# Altium footprint library PFC-120W-Pcb-Lib.PcbLib: 24 footprints (part 1 of 2)
Each footprint in its own frame and in the unit in brackets; x right, y up, seen from the top. Pads: shape width x height; smd on the part's side, far side on the other; paste and mask are expansions set on the pad; w line width, h text height; cw(c..) or ccw(c..) is an arc to the next point about the centre after c.
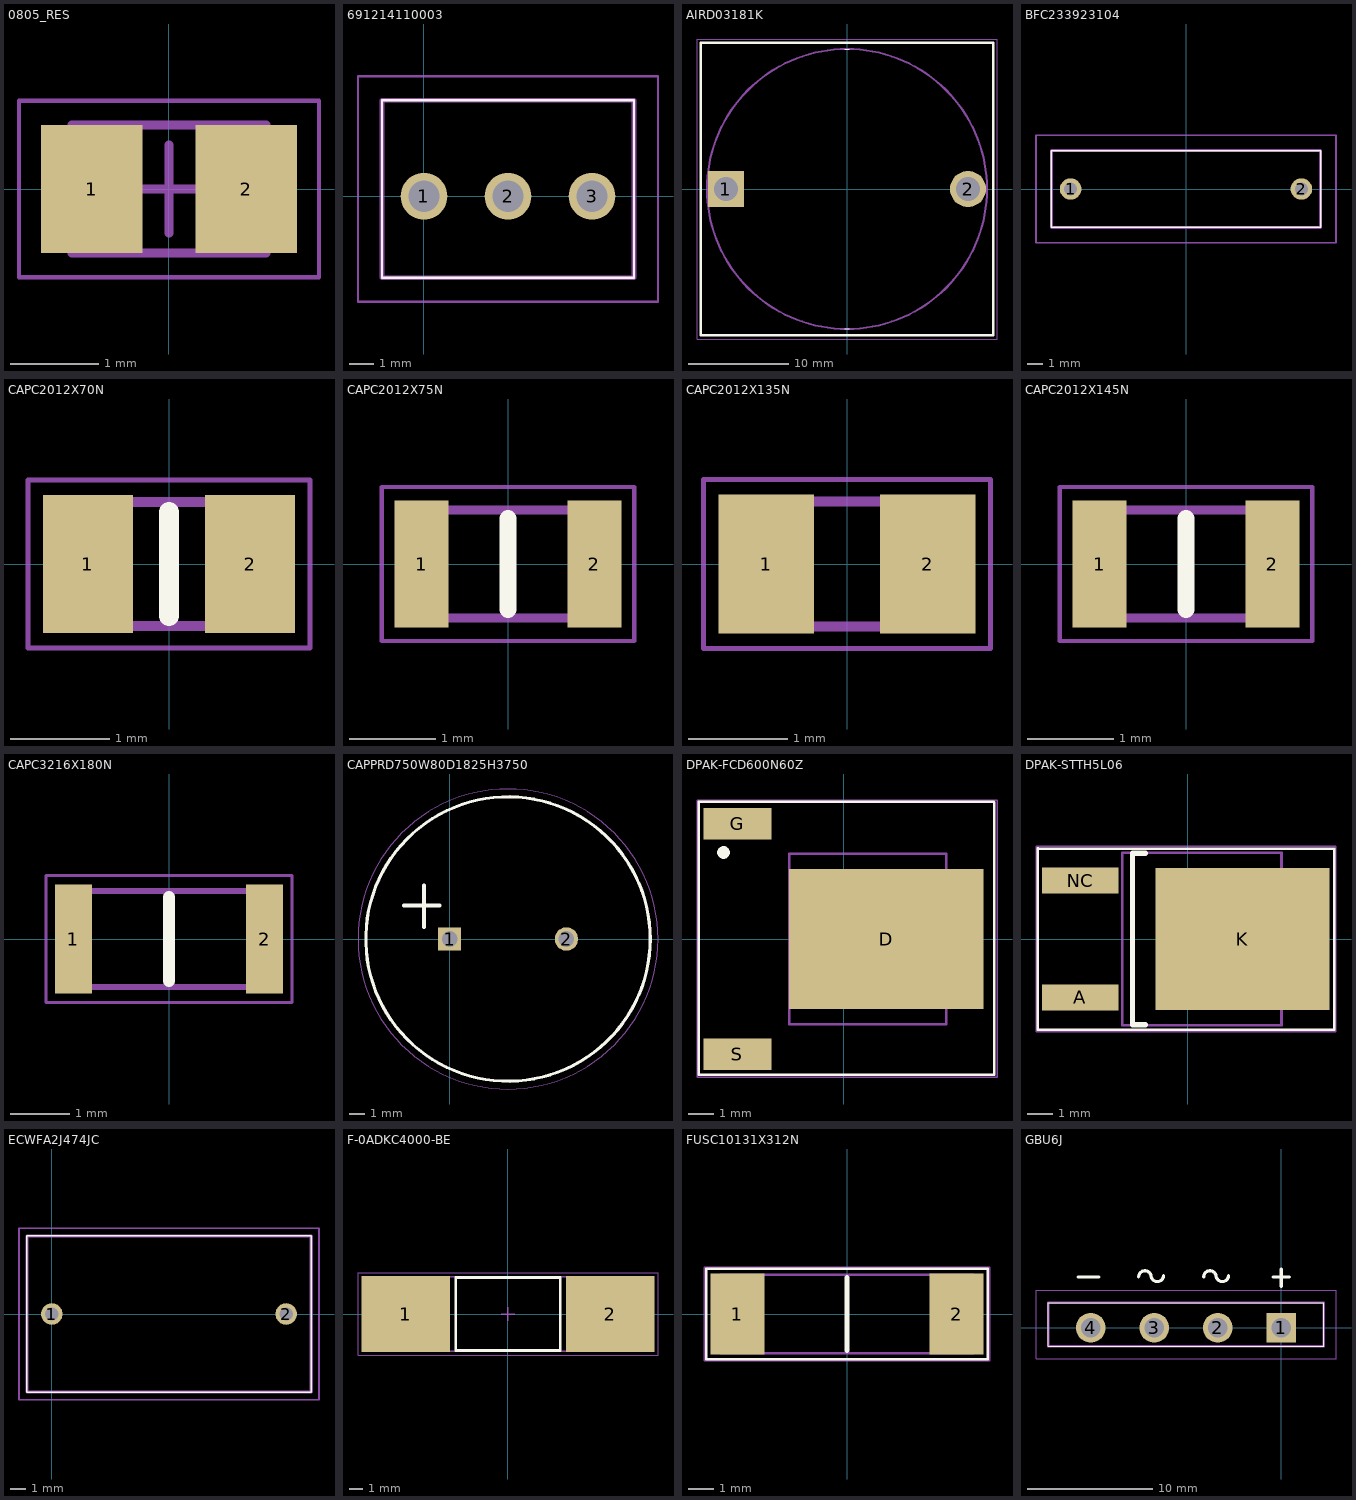
[diagram p0: the footprints below, top view; thin cyan lines are the x and y axes]

## 0805_RES [mm] "Chip Resistor, 2-Leads, Body 2,00x1,25mm, IPC Medium Density"
height 0.6
pads (2):
  rect 1.15x1.45 smd: 1(-0.875,0) 2(0.875,0)
Mechanical 13:
  lines w0.1: -1.1,-0.725 -1.1,0.725 1.1,0.725 1.1,-0.725 -1.1,-0.725
Mechanical 15:
  lines w0.05: -1.7,-1 -1.7,1 1.7,1 1.7,-1 -1.7,-1
  lines w0.1: -0.5,0 0.5,0 ; 0,-0.5 0,0.5
3D body "0805_RES.step": height 0.6, standoff 0, extent -1.1,-0.725 1.1,0.725

## 691214110003 [mm]
pads (3):
  round 1.95 hole 1.3: 1(0,0) 2(3.5,0) 3(7,0)
Top Overlay:
  lines w0.1: -1.75,-3.4 -1.75,4 8.75,4 8.75,-3.4 -1.75,-3.4
Mechanical 13:
  lines w0.2: -1.75,-3.4 -1.75,4 8.75,4 8.75,-3.4 -1.75,-3.4
Mechanical 15:
  lines w0.1: -2.75,-4.4 -2.75,5 9.75,5 9.75,-4.4 -2.75,-4.4
3D body "691214110003.stp": height 8.6, standoff -5, extent -1.75,-3.4 8.75,4

## AIRD03181K [mm]
pads (2):
  rect 3.6x3.6 hole 2.4: 1(-12.1,0)
  round 3.6 hole 2.4: 2(12.1,0)
Top Overlay:
  lines w0.1: -0.25,-14 0.25,-14 ; -0.25,14 0.25,14
  lines w0.254: -14.605,-14.605 -14.605,14.605 14.605,14.605 14.605,-14.605 -14.605,-14.605
Mechanical 13:
  lines w0.2: -14,0 cw(c0,0) 14,0 cw(c0,0) -14,0
Mechanical 15:
  lines w0.1: -15,-15 -15,15 15,15 15,-15 -15,-15
3D body "AIRD-03-181K.stp": height 21.1, standoff -5, extent -14,-14 14,14

## BFC233923104 [mm]
pads (2):
  round 1.397 hole 0.86: 1(-7.5,0) 2(7.5,0)
Top Overlay:
  lines w0.1: -8.75,-2.5 8.75,-2.5 8.75,2.5 -8.75,2.5 -8.75,-2.5
Mechanical 13:
  lines w0.2: -8.75,-2.5 8.75,-2.5 8.75,2.5 -8.75,2.5 -8.75,-2.5
Mechanical 15:
  lines w0.1: -9.75,-3.5 9.75,-3.5 9.75,3.5 -9.75,3.5 -9.75,-3.5
3D body "BFC233923104.stp": height 11.1, standoff -5, extent -8.75,-2.5 8.75,2.5

## CAPC2012X70N [mm]
pads (2):
  rect 0.91x1.39 smd: 1(-0.82,0) 2(0.82,0)
Top Overlay:
  lines w0.2: 0,-0.525 0,0.525
Mechanical 13:
  lines w0.1: -1,-0.625 -1,0.625 1,0.625 1,-0.625 -1,-0.625
Mechanical 15:
  lines w0.05: -1.425,-0.85 -1.425,0.85 1.425,0.85 1.425,-0.85 -1.425,-0.85
3D body "GRM2165C1H102FA01D.stp": height 0.7, standoff 0, extent -1,-0.625 1,0.625

## CAPC2012X75N [mm]
pads (2):
  rect 0.62x1.47 smd: 1(-1,0) 2(1,0)
Top Overlay:
  lines w0.2: 0,-0.525 0,0.525
Mechanical 13:
  lines w0.1: -1,-0.625 -1,0.625 1,0.625 1,-0.625 -1,-0.625
Mechanical 15:
  lines w0.05: -1.46,-0.89 -1.46,0.89 1.46,0.89 1.46,-0.89 -1.46,-0.89
3D body "C2012C0G2W102J060AA.stp": height 0.75, standoff 0, extent -1,-0.625 1,0.625

## CAPC2012X135N [mm]
pads (2):
  rect 0.96x1.39 smd: 1(-0.81,0) 2(0.81,0)
Mechanical 13:
  lines w0.1: -1,-0.625 -1,0.625 1,0.625 1,-0.625 -1,-0.625
Mechanical 15:
  lines w0.05: -1.44,-0.85 -1.44,0.85 1.44,0.85 1.44,-0.85 -1.44,-0.85
3D body "885382207004.stp": height 1.35, standoff 0, extent -1,-0.625 1,0.625

## CAPC2012X145N [mm]
pads (2):
  rect 0.62x1.47 smd: 1(-1,0) 2(1,0)
Top Overlay:
  lines w0.2: 0,-0.525 0,0.525
Mechanical 13:
  lines w0.1: -1,-0.625 -1,0.625 1,0.625 1,-0.625 -1,-0.625
Mechanical 15:
  lines w0.05: -1.46,-0.89 -1.46,0.89 1.46,0.89 1.46,-0.89 -1.46,-0.89
3D body "C2012X8R1E684K125AC.stp": height 1.45, standoff 0, extent -1,-0.625 1,0.625

## CAPC3216X180N [mm]
pads (2):
  rect 0.62x1.82 smd: 1(-1.6,0) 2(1.6,0)
Top Overlay:
  lines w0.2: 0,-0.7 0,0.7
Mechanical 13:
  lines w0.1: -1.6,-0.8 -1.6,0.8 1.6,0.8 1.6,-0.8 -1.6,-0.8
Mechanical 15:
  lines w0.05: -2.06,-1.06 -2.06,1.06 2.06,1.06 2.06,-1.06 -2.06,-1.06
3D body "C3216X5R1E476M160AC.stp": height 1.8, standoff 0, extent -1.6,-0.8 1.6,0.8

## CAPPRD750W80D1825H3750 [mm]
pads (2):
  rect 1.5x1.5 hole 1: 1(0,0)
  round 1.5 hole 1: 2(7.5,0)
Top Overlay:
  circle w0.2: c3.75,0 r9.125
  lines w0.254: -2.921,2.159 -1.651,2.159 -0.635,2.159 ; -1.651,0.762 -1.651,3.429
Mechanical 13:
  circle w0.1: c3.75,0 r9.125
Mechanical 15:
  circle w0.05: c3.75,0 r9.625
3D body "UVY2W680MHD.stp": height 37.5, standoff -10, extent -5.5,-9.245 13,9.245

## DPAK-FCD600N60Z [mm] "DPAK-FCD600N60Z"
height 2.4
pads (3):
  rect 7.7x5.55 smd: D(1.7,0)
  rect 2.7x1.25 smd: G(-4.2,4.57) S(-4.2,-4.57)
Top Overlay:
  circle w0.25: c-4.75,3.425 r0.125
  lines w0.1: -5.725,-5.375 5.975,-5.375 5.975,5.4 5.95,5.425 -5.725,5.425 -5.725,-5.375
Mechanical 13:
  lines w0.1: -2.15,-3.375 -2.15,3.375 4.07,3.375 4.07,-3.375 -2.15,-3.375
Mechanical 15:
  lines w0.05: -5.8,-5.475 -5.8,5.5 6.075,5.5 6.075,-5.475 -5.8,-5.475
  lines w0.1: -0.5,0 0.5,0 ; 0,-0.5 0,0.5
3D body "DPAK-FCD600N60Z.step": height 2.52, standoff 0, extent -4.14,-5.045 5.765,5.045

## DPAK-STTH5L06 [mm] "DPAK-STTH5L06"
height 2.4
pads (3):
  rect 3x1 smd: A(-4.191,-2.286) NC(-4.191,2.286)
  rect 6.8x5.55 smd: K(2.15,0)
Top Overlay:
  lines w0.1: -5.85,-3.55 -3.75,-3.55 2.425,-3.55 5.725,-3.55 5.725,-0.875 5.725,3.525 -5.825,3.525 -5.85,3.55 -5.85,-3.55
  lines w0.2: -1.65,-3.35 -2.15,-3.35 -2.15,3.35 -1.65,3.35
Mechanical 13:
  lines w0.1: -2.55,-3.375 -2.55,3.375 3.67,3.375 3.67,-3.375 -2.55,-3.375
Mechanical 15:
  lines w0.05: -5.925,-3.625 -5.925,3.625 5.8,3.625 5.8,-3.625 -5.925,-3.625
  lines w0.1: -0.5,0 0.5,0 ; 0,-0.5 0,0.5
3D body "DPAK-STTH5L06.step": height 2.63, standoff 0, extent -4.805,-3.375 5.07,3.375

## ECWFA2J474JC [mm]
pads (2):
  round 1.381 hole 0.85: 1(0,0) 2(15,0)
Top Overlay:
  lines w0.1: -1.6,-5 16.6,-5 16.6,5 -1.6,5 -1.6,-5
Mechanical 13:
  lines w0.2: -1.6,-5 16.6,-5 16.6,5 -1.6,5 -1.6,-5
Mechanical 15:
  lines w0.1: -2.1,-5.5 17.1,-5.5 17.1,5.5 -2.1,5.5 -2.1,-5.5
3D body "ECW-FA2J474JC.stp": height 16.7, standoff -5, extent -1.6,-5 16.6,5

## F-0ADKC4000-BE [mm] "4A 600V AC 500V DC Fuse Cartridge, Ceramic Holder 5mm x 20mm"
height 5.4
pads (2):
  rect 6.45x5.5 smd: 1(-7.425,0) 2(7.425,0)
Top Overlay:
  lines w0.2: -3.8,-2.65 3.8,-2.65 3.8,2.65 -3.8,2.65 -3.8,-2.65
Mechanical 13:
  lines w0.1: -10.25,-2.7 -10.25,2.7 10.25,2.7 10.25,-2.7 -10.25,-2.7
Mechanical 15:
  lines w0.05: -10.9,-3 -10.9,3 10.9,3 10.9,-3 -10.9,-3
  lines w0.1: -0.5,0 0.5,0 ; 0,-0.5 0,0.5
3D body "F-0ADKC4000-BE.step": height 5.2, standoff 0, extent -10,-2.599 10,2.599

## FUSC10131X312N [mm]
pads (2):
  rect 2.16x3.23 smd: 1(-4.375,0) 2(4.375,0)
Top Overlay:
  lines w0.1: -5.625,-1.8 -5.625,1.8 5.625,1.8 5.625,-1.8 -5.625,-1.8
  lines w0.2: 0,-1.46 0,1.46
Mechanical 13:
  lines w0.1: -5.05,-1.56 -5.05,1.56 5.05,1.56 5.05,-1.56 -5.05,-1.56
Mechanical 15:
  lines w0.05: -5.705,-1.865 -5.705,1.865 5.705,1.865 5.705,-1.865 -5.705,-1.865
3D body "0461002.ERT.stp": height 3.12, standoff 0, extent -5.05,-1.56 5.05,1.56

## GBU6J [mm]
pads (4):
  rect 2.37x2.37 hole 1.58: 1(0,0)
  round 2.37 hole 1.58: 2(-5.08,0) 3(-10.16,0) 4(-15.24,0)
Top Overlay:
  lines w0.1: -18.62,-1.5 -18.62,2 3.38,2 3.38,-1.5 -18.62,-1.5
  lines w0.254: -16.256,4.064 -14.605,4.064 ; -11.41,4.064 cw(c-10.91,4.064) -10.41,4.064 ; -10.418,4.191 ccw(c-9.918,4.191) -9.418,4.191 ; -6.207,4.064 cw(c-5.707,4.064) -5.207,4.064 ; -5.215,4.191 ccw(c-4.715,4.191) -4.215,4.191 ; -0.635,4.064 0.635,4.064 ; 0,3.302 0,4.699
Mechanical 13:
  lines w0.2: -18.62,-1.5 -18.62,2 3.38,2 3.38,-1.5 -18.62,-1.5
Mechanical 15:
  lines w0.1: -19.62,-2.5 -19.62,3 4.38,3 4.38,-2.5 -19.62,-2.5
3D body "GBU6J.stp": height 18.9, standoff -5, extent -18.62,-1.5 3.38,2